# Altium integrated library IR2104S.IntLib: 1 symbol
Pins are listed as number, name and electrical type; pins without a type are passive.

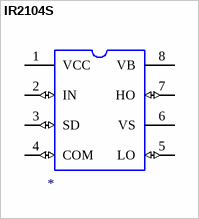
[diagram p0: symbol IR2104S]

## IR2104S
designator ?
Half-Bridge Gate Driver IC Non-Inverting 8-SOIC; MP: IR2104S; MF: Infineon Technologies; SnapEDA_Link: https://www.snapeda.com/parts/IR2104S/Infineon%20Technologies/view-part/582439/?ref=snap; Package: SO-8 Infineon; Price: None; Value: *; Availability: Unavailable
footprint IR2104S
pins: 1 VCC (power), 2 IN (io), 3 SD (io), 4 COM (io), 5 LO (io), 6 VS (power), 7 HO (io), 8 VB (power)